# Altium footprint library 21-Transistor.PcbLib: 90 footprints (part 5 of 6)
Each footprint in its own frame and in the unit in brackets; x right, y up, seen from the top. Pads: shape width x height; smd on the part's side, far side on the other; paste and mask are expansions set on the pad; w line width, h text height; cw(c..) or ccw(c..) is an arc to the next point about the centre after c.
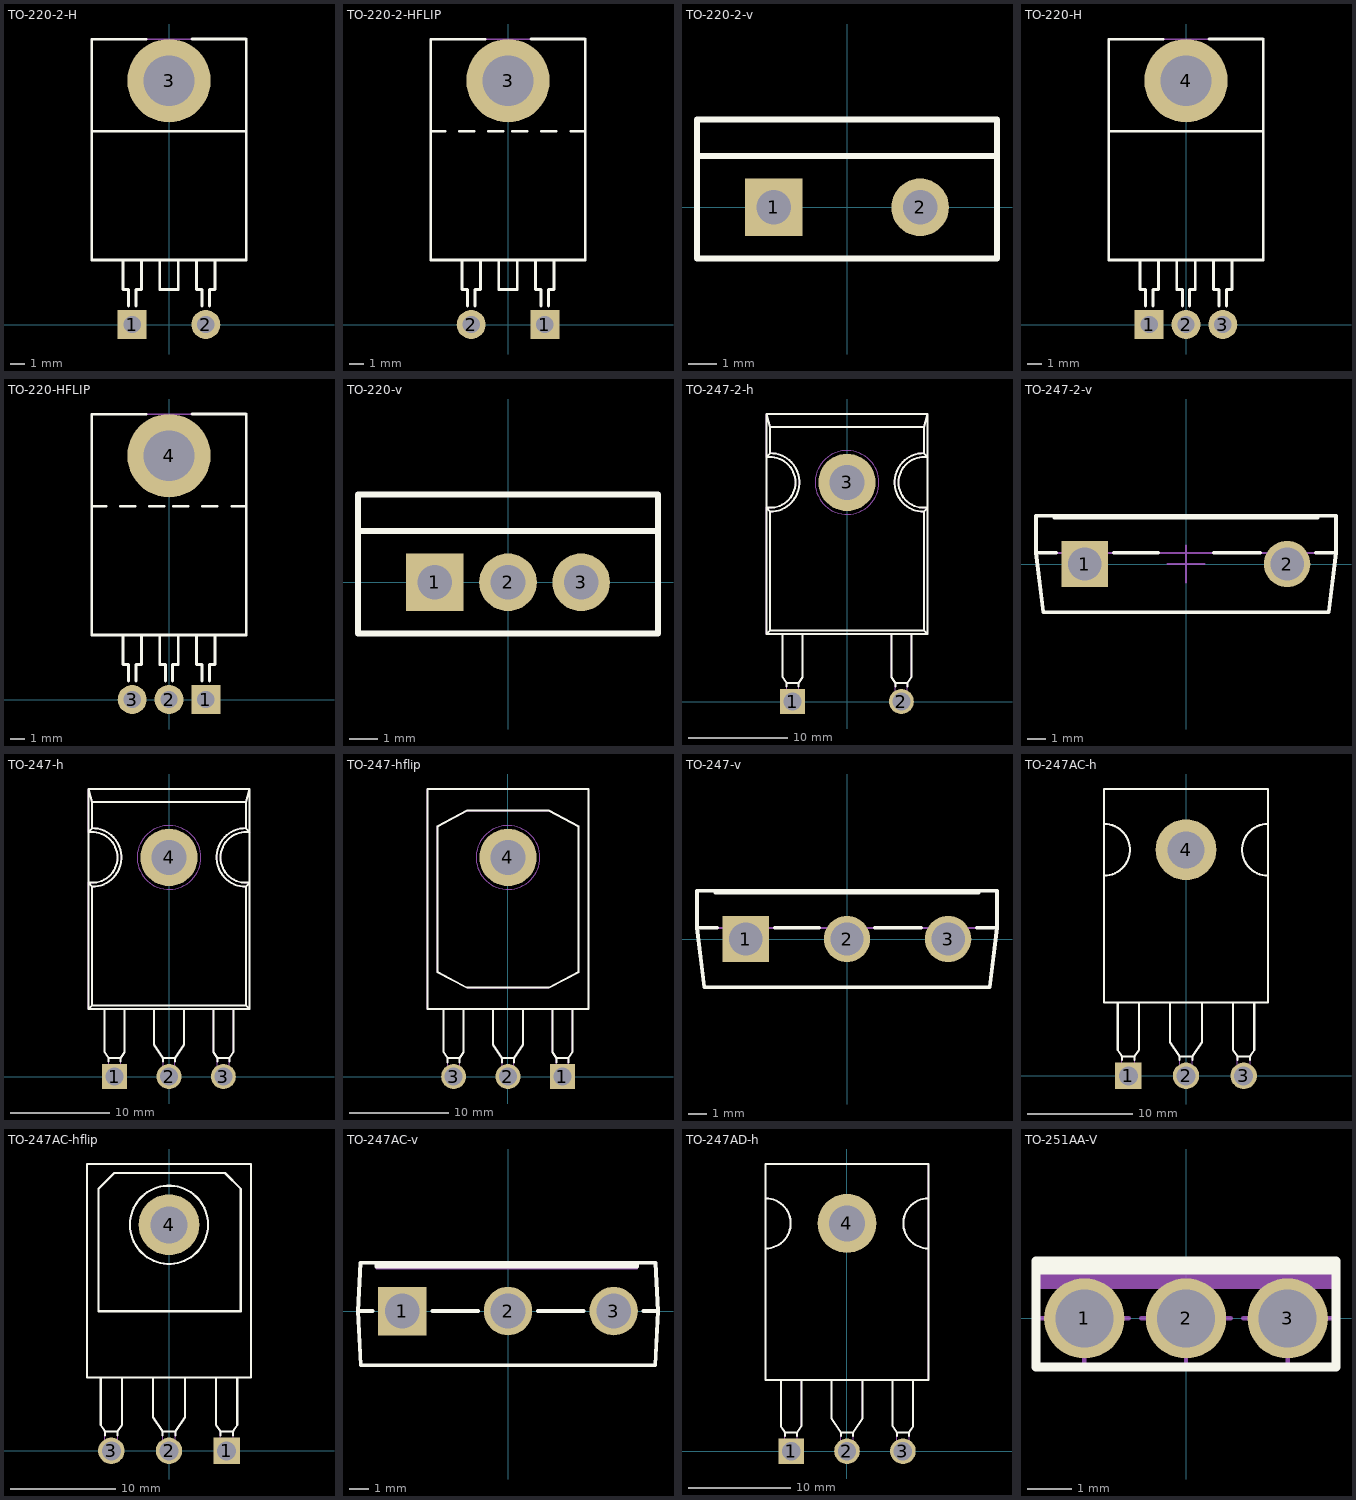
[diagram p4: the footprints below, top view; thin cyan lines are the x and y axes]

## TO-220-2-H [mm] "TO-220 2-Terminal + Tab - Horizontal Mount"
height 4.7
pads (3):
  rect 2x2 hole 1.2: 1(-2.54,0)
  round 2 hole 1.2: 2(2.54,0)
  round 5.75 hole 3.5: 3(0,16.828)
Top Overlay:
  lines w0.2: -5.334,13.335 5.334,13.335 ; -3.175,4.445 -3.175,2.413 -2.794,2.413 -2.794,1.27 ; -2.286,1.27 -2.286,2.413 -1.905,2.413 -1.905,4.445 ; -1.6,19.685 -5.334,19.685 -5.334,4.445 5.334,4.445 5.334,19.685 5.319,19.7 1.6,19.7 ; -0.635,4.445 -0.635,2.413 0.635,2.413 0.635,4.445 ; 1.905,4.445 1.905,2.413 2.286,2.413 2.286,1.27 ; 2.794,1.27 2.794,2.413 3.175,2.413 3.175,4.445
Mechanical 14:
  circle w0.1: c0,16.828 r2
  lines w0.1: -5.334,13.335 5.334,13.335 ; -3.175,4.445 -3.175,2.413 -2.794,2.413 -2.794,1.27 ; -2.286,1.27 -2.286,2.413 -1.905,2.413 -1.905,4.445 ; -0.635,4.445 -0.635,2.413 0.635,2.413 0.635,4.445 ; 1.905,4.445 1.905,2.413 2.286,2.413 2.286,1.27 ; 2.794,1.27 2.794,2.413 3.175,2.413 3.175,4.445 ; -5.334,4.445 -5.334,19.685 5.334,19.685 5.334,4.445 -5.334,4.445
3D body "TO-220-2-H.stp": height 4.7, standoff -3.5, extent -5.27,-0.28 5.27,19.49

## TO-220-2-HFLIP [mm] "TO-220 2-Terminal + Tab - Flipped Horizontal Mount"
height 4.7
pads (3):
  rect 2x2 hole 1.2: 1(2.54,0)
  round 2 hole 1.2: 2(-2.54,0)
  round 5.75 hole 3.5: 3(0,16.828)
Top Overlay:
  lines w0.2: -5.334,13.335 -4.334,13.335 ; -3.334,13.335 -2.334,13.335 ; -3.175,4.445 -3.175,2.413 -2.794,2.413 -2.794,1.27 ; -2.286,1.27 -2.286,2.413 -1.905,2.413 -1.905,4.445 ; -1.6,19.685 -5.334,19.685 -5.334,4.445 5.334,4.445 5.334,19.685 5.319,19.7 1.6,19.7 ; -1.334,13.335 -0.334,13.335 ; -0.635,4.445 -0.635,2.413 0.635,2.413 0.635,4.445 ; 0.3,13.335 1.3,13.335 ; 1.905,4.445 1.905,2.413 2.286,2.413 2.286,1.27 ; 2.3,13.335 3.3,13.335 ; 2.794,1.27 2.794,2.413 3.175,2.413 3.175,4.445 ; 4.334,13.335 5.334,13.335
Mechanical 14:
  circle w0.1: c0,16.828 r2
  lines w0.1: -5.334,13.335 -4.334,13.335 ; -3.334,13.335 -2.334,13.335 ; -3.175,4.445 -3.175,2.413 -2.794,2.413 -2.794,1.27 ; -2.286,1.27 -2.286,2.413 -1.905,2.413 -1.905,4.445 ; -1.334,13.335 -0.334,13.335 ; -0.635,4.445 -0.635,2.413 0.635,2.413 0.635,4.445 ; 0.3,13.335 1.3,13.335 ; 1.905,4.445 1.905,2.413 2.286,2.413 2.286,1.27 ; 2.3,13.335 3.3,13.335 ; 2.794,1.27 2.794,2.413 3.175,2.413 3.175,4.445 ; 4.334,13.335 5.334,13.335 ; -5.334,4.445 5.334,4.445 5.334,19.685 -5.334,19.685 -5.334,4.445
3D body "TO-220-2-HFLIP.stp": height 4.7, standoff -4.7, extent -5.27,-0.28 5.27,19.49

## TO-220-2-v [mm] "TO-220 2-Terminal - Vertical Mount"
height 22.86
pads (2):
  rect 2x2 hole 1.2: 1(-2.54,0)
  round 2 hole 1.2: 2(2.54,0)
Top Overlay:
  lines w0.2: -5.207,1.778 5.207,1.778 ; -5.207,-1.778 -5.207,3.048 5.207,3.048 5.207,-1.778 -5.207,-1.778
Mechanical 14:
  lines w0.1: -5.207,1.778 5.207,1.778 ; -5.207,-1.778 -5.207,3.048 5.207,3.048 5.207,-1.778 -5.207,-1.778
3D body "TO-220-2-V.stp": height 20.5, standoff -3.5, extent -5.27,-1.75 5.27,2.95

## TO-220-H [mm] "TO-220 3-Terminal + Tab - Horizontal Mount"
height 4.7
pads (4):
  rect 2x2 hole 1.2: 1(-2.54,0)
  round 2 hole 1.2: 2(0,0) 3(2.54,0)
  round 5.75 hole 3.5: 4(0,16.828)
Top Overlay:
  lines w0.2: -5.334,13.335 5.334,13.335 ; -3.175,4.445 -3.175,2.413 -2.794,2.413 -2.794,1.27 ; -2.286,1.27 -2.286,2.413 -1.905,2.413 -1.905,4.445 ; -1.6,19.685 -5.334,19.685 -5.334,4.445 5.334,4.445 5.334,19.685 5.319,19.7 1.6,19.7 ; -0.635,4.445 -0.635,2.413 -0.254,2.413 -0.254,1.27 ; 0.254,1.27 0.254,2.413 0.635,2.413 0.635,4.445 ; 1.905,4.445 1.905,2.413 2.286,2.413 2.286,1.27 ; 2.794,1.27 2.794,2.413 3.175,2.413 3.175,4.445
Mechanical 14:
  circle w0.1: c0,16.828 r2
  lines w0.1: -5.334,13.335 5.334,13.335 ; -3.175,4.445 -3.175,2.413 -2.794,2.413 -2.794,1.27 ; -2.286,1.27 -2.286,2.413 -1.905,2.413 -1.905,4.445 ; -0.635,4.445 -0.635,2.413 -0.254,2.413 -0.254,1.27 ; 0.254,1.27 0.254,2.413 0.635,2.413 0.635,4.445 ; 1.905,4.445 1.905,2.413 2.286,2.413 2.286,1.27 ; 2.794,1.27 2.794,2.413 3.175,2.413 3.175,4.445 ; -5.334,4.445 -5.334,19.685 5.334,19.685 5.334,4.445 -5.334,4.445
3D body "TO-220-H.stp": height 4.7, standoff -3.5, extent -5.27,-0.28 5.27,19.49

## TO-220-HFLIP [mm] "TO-220 3-Terminal + Tab - Flipped Horizontal Mount"
height 4.7
pads (4):
  rect 2x2 hole 1.2: 1(2.54,0)
  round 2 hole 1.2: 2(0,0) 3(-2.54,0)
  round 5.75 hole 3.5: 4(0,16.828)
Top Overlay:
  lines w0.2: -5.334,13.335 -4.334,13.335 ; -3.334,13.335 -2.334,13.335 ; -3.175,4.445 -3.175,2.413 -2.794,2.413 -2.794,1.27 ; -2.286,1.27 -2.286,2.413 -1.905,2.413 -1.905,4.445 ; -1.6,19.685 -5.334,19.685 -5.334,4.445 5.334,4.445 5.334,19.685 5.319,19.7 1.6,19.7 ; -1.334,13.335 -0.334,13.335 ; -0.635,4.445 -0.635,2.413 -0.254,2.413 -0.254,1.27 ; 0.254,1.27 0.254,2.413 0.635,2.413 0.635,4.445 ; 0.3,13.335 1.3,13.335 ; 1.905,4.445 1.905,2.413 2.286,2.413 2.286,1.27 ; 2.3,13.335 3.3,13.335 ; 2.794,1.27 2.794,2.413 3.175,2.413 3.175,4.445 ; 4.334,13.335 5.334,13.335
Mechanical 14:
  circle w0.1: c0,16.828 r2
  lines w0.1: -5.334,13.335 -4.334,13.335 ; -3.334,13.335 -2.334,13.335 ; -3.175,4.445 -3.175,2.413 -2.794,2.413 -2.794,1.27 ; -2.286,1.27 -2.286,2.413 -1.905,2.413 -1.905,4.445 ; -1.334,13.335 -0.334,13.335 ; -0.635,4.445 -0.635,2.413 -0.254,2.413 -0.254,1.27 ; 0.254,1.27 0.254,2.413 0.635,2.413 0.635,4.445 ; 0.3,13.335 1.3,13.335 ; 1.905,4.445 1.905,2.413 2.286,2.413 2.286,1.27 ; 2.3,13.335 3.3,13.335 ; 2.794,1.27 2.794,2.413 3.175,2.413 3.175,4.445 ; 4.334,13.335 5.334,13.335 ; -5.334,4.445 -5.334,19.685 5.334,19.685 5.334,4.445 -5.334,4.445
3D body "TO-220-HFLIP.stp": height 4.7, standoff -4.7, extent -5.27,-0.28 5.27,19.49

## TO-220-v [mm] "TO-220 3-Terminal - Vertical Mount"
height 22.86
pads (3):
  rect 2x2 hole 1.2: 1(-2.54,0)
  round 2 hole 1.2: 2(0,0) 3(2.54,0)
Top Overlay:
  lines w0.2: -5.207,1.778 5.207,1.778 ; -5.207,-1.778 5.207,-1.778 5.207,3.048 -5.207,3.048 -5.207,-1.778
Mechanical 14:
  lines w0.1: -5.207,1.778 5.207,1.778 ; -5.207,-1.778 5.207,-1.778 5.207,3.048 -5.207,3.048 -5.207,-1.778
3D body "TO-220-V.stp": height 20.5, standoff -3.5, extent -5.27,-1.75 5.27,2.95

## TO-247-2-h [mm] "TO-247 2-Terminal - Horizontal Mount"
height 5.26
pads (3):
  rect 2.5x2.5 hole 1.8: 1(-5.46,0)
  round 2.5 hole 1.8: 2(5.46,0)
  round 5.75 hole 3.5: 3(0,22)
Top Overlay:
  lines w0.2: -6.46,6.76 -6.46,2.44 -6.06,1.84 ; -6.06,1.5 -6.06,1.84 ; -4.86,1.5 -4.86,1.84 ; -4.46,6.76 -4.46,2.44 -4.86,1.84 ; 4.46,6.76 4.46,2.44 4.86,1.84 ; 4.86,1.5 4.86,1.84 ; 6.06,1.5 6.06,1.84 ; 6.46,6.76 6.46,2.44 6.06,1.84 ; 8.1,19.45 7.71,19.06 ; 8.1,19.49 cw(c7.71,22) 8.1,24.51 7.71,24.94 ; 8.1,28.86 7.71,27.567 ; -8.1,6.76 -8.1,28.86 ; -8.1,6.76 -7.71,7.153 ; -8.1,6.76 8.1,6.76 ; -8.1,28.86 -7.71,27.567 ; -8.1,28.86 8.103,28.869 8.1,6.76 ; -7.71,7.153 -7.71,19.06 ; -7.71,7.153 7.71,7.153 ; -7.71,19.06 ccw(c-7.71,22) -7.71,24.94 ; -7.71,19.06 -8.1,19.49 ccw(c-7.71,22) -8.1,24.51 -7.71,24.94 ; -7.71,24.94 -7.71,27.567 ; -7.71,27.567 7.71,27.567 ; -6.06,1.84 -4.86,1.84 ; 4.86,1.84 6.06,1.84 ; 7.71,7.153 8.1,6.76 ; 7.71,7.153 7.71,19.06 ; 7.71,19.06 cw(c7.71,22) 7.71,24.94 ; 7.71,24.94 7.71,27.567
Mechanical 8:
  lines w0.1: -6.46,0 -5.46,0 ; -5.46,-1 -5.46,0 ; -5.46,1 -5.46,0 ; -4.46,0 -5.46,0 ; -1,22 0,22 ; 0,21 0,22 ; 0,23 0,22 ; 1,22 0,22 ; 4.46,0 5.46,0 ; 5.46,-1 5.46,0 ; 5.46,1 5.46,0 ; 6.46,0 5.46,0
Mechanical 14:
  circle w0.1: c0,22 r3.202
  lines w0.1: -6.46,6.76 -6.46,2.44 -6.06,1.84 ; -4.46,6.76 -4.46,2.44 -4.86,1.84 ; 4.46,6.76 4.46,2.44 4.86,1.84 ; 6.46,6.76 6.46,2.44 6.06,1.84 ; 8.103,28.869 -8.1,28.86 ; -8.1,6.76 -7.71,7.153 ; -8.1,6.76 -8.1,19.49 ; -8.1,6.76 8.1,6.76 ; -8.1,19.49 ccw(c-7.71,22) -8.1,24.51 ; -8.1,19.49 -7.71,19.06 ; -8.1,24.51 -7.71,24.94 ; -8.1,24.51 -8.1,28.86 ; -8.1,28.86 -7.71,27.567 ; -7.71,7.153 -7.71,19.06 ; -7.71,7.153 7.71,7.153 ; -7.71,19.06 ccw(c-7.71,22) -7.71,24.94 ; -7.71,24.94 -7.71,27.567 ; -7.71,27.567 7.71,27.567 ; -6.06,1.84 -6.06,-0.5 -4.86,-0.5 -4.86,1.84 ; -6.06,1.84 -4.86,1.84 ; 4.86,1.84 4.86,-0.5 6.06,-0.5 6.06,1.84 ; 4.86,1.84 6.06,1.84 ; 7.71,7.153 8.1,6.76 ; 7.71,7.153 7.71,19.06 ; 7.71,19.06 cw(c7.71,22) 7.71,24.94 ; 7.71,19.06 8.1,19.49 ; 7.71,24.94 8.1,24.51 ; 7.71,24.94 7.71,27.567 ; 7.71,27.567 8.1,28.86 8.1,24.51 ; 8.1,6.76 8.1,19.49 ; 8.1,19.49 cw(c7.71,22) 8.1,24.51
3D body "TO-247-2-H.stp": height 5.2, standoff -3.8, extent -8.1,-0.5 8.1,28.86

## TO-247-2-v [mm] "TO-247 2-Terminal - Vertical Mount"
height 25
pads (2):
  rect 2.5x2.5 hole 1.8: 1(-5.46,0)
  round 2.5 hole 1.8: 2(5.46,0)
Top Overlay:
  lines w0.2: -7.1,2.6 -7.1,2.5 7.1,2.5 7.1,2.6 ; -7,0.6 -8.1,0.6 ; -3.9,0.6 -1.5,0.6 ; 1.5,0.6 4,0.6 ; 7,0.6 8.1,0.6 ; -8.1,0.6 -8.1,2.6 8.1,2.6 8.1,0.6 ; -8.1,0.6 -7.71,-2.6 7.71,-2.6 8.1,0.6
Mechanical 8:
  lines w0.1: -6.46,0 -5.46,0 ; -5.46,-1 -5.46,0 ; -5.46,1 -5.46,0 ; -4.46,0 -5.46,0 ; -1,0 0,0 ; 0,-1 0,0 ; 0,1 0,0 ; 1,0 0,0 ; 4.46,0 5.46,0 ; 5.46,-1 5.46,0 ; 5.46,1 5.46,0 ; 6.46,0 5.46,0
Mechanical 14:
  lines w0.1: -7.1,2.6 -7.1,2.5 7.1,2.5 7.1,2.6 ; -8.1,0.6 -8.1,2.6 8.1,2.6 8.1,0.6 ; -8.1,0.6 -7.71,-2.6 7.71,-2.6 8.1,0.6 ; -8.1,0.6 8.1,0.6
3D body "TO-247-2-V.stp": height 27.02, standoff -3.6, extent -8.1,-2.6 8.1,2.6

## TO-247-h [mm] "TO-247 3-Terminal - Horizontal Mount"
height 5.26
pads (4):
  rect 2.5x2.5 hole 1.8: 1(-5.46,0)
  round 2.5 hole 1.8: 2(0,0) 3(5.46,0)
  round 5.75 hole 3.5: 4(0,22)
Top Overlay:
  lines w0.2: -6.46,6.76 -6.46,2.44 -6.06,1.84 ; -6.06,1.5 -6.06,1.84 ; -4.86,1.5 -4.86,1.84 ; -4.46,6.76 -4.46,2.44 -4.86,1.84 ; -1.5,6.76 -1.5,3.19 -0.6,1.84 ; -0.6,1.5 -0.6,1.84 ; 0.6,1.5 0.6,1.84 ; 1.5,6.76 1.5,3.19 0.6,1.84 ; 4.46,6.76 4.46,2.44 4.86,1.84 ; 4.86,1.5 4.86,1.84 ; 6.06,1.5 6.06,1.84 ; 6.46,6.76 6.46,2.44 6.06,1.84 ; 8.1,19.45 7.71,19.06 ; 8.1,19.49 cw(c7.71,22) 8.1,24.51 7.71,24.94 ; 8.1,28.86 7.71,27.567 ; -8.1,6.76 8.1,6.76 ; -8.1,6.76 -7.71,7.153 ; -8.1,6.76 -8.1,28.86 ; -8.1,28.86 8.103,28.869 8.1,6.76 ; -8.1,28.86 -7.71,27.567 ; -7.71,7.153 7.71,7.153 ; -7.71,7.153 -7.71,19.06 ; -7.71,19.06 ccw(c-7.71,22) -7.71,24.94 ; -7.71,19.06 -8.1,19.49 ccw(c-7.71,22) -8.1,24.51 -7.71,24.94 ; -7.71,24.94 -7.71,27.567 ; -7.71,27.567 7.71,27.567 ; -6.06,1.84 -4.86,1.84 ; -0.6,1.84 0.6,1.84 ; 4.86,1.84 6.06,1.84 ; 7.71,7.153 7.71,19.06 ; 7.71,7.153 8.1,6.76 ; 7.71,19.06 cw(c7.71,22) 7.71,24.94 ; 7.71,24.94 7.71,27.567
Mechanical 8:
  lines w0.1: -6.46,0 -5.46,0 ; -5.46,-1 -5.46,0 ; -5.46,1 -5.46,0 ; -4.46,0 -5.46,0 ; -1,0 0,0 ; -1,22 0,22 ; 0,-1 0,0 ; 0,1 0,0 ; 0,21 0,22 ; 0,23 0,22 ; 1,0 0,0 ; 1,22 0,22 ; 4.46,0 5.46,0 ; 5.46,-1 5.46,0 ; 5.46,1 5.46,0 ; 6.46,0 5.46,0
Mechanical 14:
  circle w0.1: c0,22 r3.202
  lines w0.1: -6.46,6.76 -6.46,2.44 -6.06,1.84 ; -4.46,6.76 -4.46,2.44 -4.86,1.84 ; -1.5,6.76 -1.5,3.19 -0.6,1.84 ; 1.5,6.76 1.5,3.19 0.6,1.84 ; 4.46,6.76 4.46,2.44 4.86,1.84 ; 6.46,6.76 6.46,2.44 6.06,1.84 ; 8.103,28.869 -8.1,28.86 ; -8.1,6.76 8.1,6.76 ; -8.1,6.76 -8.1,19.49 ; -8.1,6.76 -7.71,7.153 ; -8.1,19.49 ccw(c-7.71,22) -8.1,24.51 ; -8.1,19.49 -7.71,19.06 ; -8.1,24.51 -8.1,28.86 ; -8.1,24.51 -7.71,24.94 ; -8.1,28.86 -7.71,27.567 ; -7.71,7.153 7.71,7.153 ; -7.71,7.153 -7.71,19.06 ; -7.71,19.06 ccw(c-7.71,22) -7.71,24.94 ; -7.71,24.94 -7.71,27.567 ; -7.71,27.567 7.71,27.567 ; -6.06,1.84 -4.86,1.84 ; -6.06,1.84 -6.06,-0.5 -4.86,-0.5 -4.86,1.84 ; -0.6,1.84 0.6,1.84 ; -0.6,1.84 -0.6,-0.5 0.6,-0.5 0.6,1.84 ; 4.86,1.84 6.06,1.84 ; 4.86,1.84 4.86,-0.5 6.06,-0.5 6.06,1.84 ; 7.71,7.153 7.71,19.06 ; 7.71,7.153 8.1,6.76 ; 7.71,19.06 cw(c7.71,22) 7.71,24.94 ; 7.71,19.06 8.1,19.49 ; 7.71,24.94 7.71,27.567 ; 7.71,24.94 8.1,24.51 ; 7.71,27.567 8.1,28.86 8.1,24.51 ; 8.1,6.76 8.1,19.49 ; 8.1,19.49 cw(c7.71,22) 8.1,24.51
3D body "TO-247-H.stp": height 5.2, standoff -3.8, extent -8.1,-0.5 8.1,28.86

## TO-247-hflip [mm] "TO-247 3-Terminal - Flipped Horizontal Mount"
height 5.26
pads (4):
  rect 2.5x2.5 hole 1.8: 1(5.46,0)
  round 2.5 hole 1.8: 2(0,0) 3(-5.46,0)
  round 5.75 hole 3.5: 4(0,22)
Top Overlay:
  lines w0.2: -6.46,6.76 -6.46,2.44 -6.06,1.84 ; -6.06,1.429 -6.06,1.84 ; -4.86,1.429 -4.86,1.84 ; -4.46,6.76 -4.46,2.44 -4.86,1.84 ; -1.5,6.76 -1.5,3.19 -0.6,1.84 ; -0.6,1.429 -0.6,1.84 ; 0.6,1.429 0.6,1.84 ; 1.5,6.76 1.5,3.19 0.6,1.84 ; 4.46,6.76 4.46,2.44 4.86,1.84 ; 4.86,1.429 4.86,1.84 ; 6.06,1.429 6.06,1.84 ; 6.46,6.76 6.46,2.44 6.06,1.84 ; 8.1,28.869 8.1,6.76 -8.1,6.76 -8.1,28.86 8.103,28.869 ; -6.06,1.84 -4.86,1.84 ; -0.6,1.84 0.6,1.84 ; 4.86,1.84 6.06,1.84 ; -7.1,10.51 -4.1,8.92 4.1,8.92 7.1,10.51 7.1,25.11 4.1,26.7 -4.1,26.7 -7.1,25.11 -7.1,10.51
Mechanical 8:
  lines w0.1: -5.46,0 -6.46,0 -5.46,0 ; -5.46,0 -4.46,0 -5.46,0 ; -5.46,0 -5.46,-1 -5.46,0 ; -5.46,0 -5.46,1 -5.46,0 ; 0,0 -1,0 0,0 ; 0,0 1,0 0,0 ; 0,0 0,-1 0,0 ; 0,0 0,1 0,0 ; 0,22 -1,22 0,22 ; 0,22 1,22 0,22 ; 0,22 0,21 0,22 ; 0,22 0,23 0,22 ; 5.46,0 4.46,0 5.46,0 ; 5.46,0 6.46,0 5.46,0 ; 5.46,0 5.46,-1 5.46,0 ; 5.46,0 5.46,1 5.46,0
Mechanical 14:
  circle w0.1: c0,22 r3.202
  lines w0.1: -6.46,6.76 -6.46,2.44 -6.06,1.84 ; -4.46,6.76 -4.46,2.44 -4.86,1.84 ; -1.5,6.76 -1.5,3.19 -0.6,1.84 ; 1.5,6.76 1.5,3.19 0.6,1.84 ; 4.46,6.76 4.46,2.44 4.86,1.84 ; 6.46,6.76 6.46,2.44 6.06,1.84 ; 8.1,28.869 8.1,6.76 -8.1,6.76 -8.1,28.86 8.103,28.869 ; -6.06,1.84 -4.86,1.84 ; -6.06,1.84 -6.06,-0.5 -4.86,-0.5 -4.86,1.84 ; -0.6,1.84 0.6,1.84 ; -0.6,1.84 -0.6,-0.5 0.6,-0.5 0.6,1.84 ; 4.86,1.84 6.06,1.84 ; 4.86,1.84 4.86,-0.5 6.06,-0.5 6.06,1.84 ; -7.1,10.51 -4.1,8.92 4.1,8.92 7.1,10.51 7.1,25.11 4.1,26.7 -4.1,26.7 -7.1,25.11 -7.1,10.51
3D body "TO-247-HFLIP.stp": height 5.2, standoff -3.8, extent -8.1,-0.5 8.1,28.86

## TO-247-v [mm] "TO-247 3-Terminal - Vertical Mount"
height 25
pads (3):
  rect 2.5x2.5 hole 1.8: 1(-5.46,0)
  round 2.5 hole 1.8: 2(0,0) 3(5.46,0)
Top Overlay:
  lines w0.2: -7.1,2.6 -7.1,2.5 7.1,2.5 7.1,2.6 ; -7,0.6 -8.1,0.6 ; -3.9,0.6 -1.5,0.6 ; 1.5,0.6 4,0.6 ; 7,0.6 8.1,0.6 ; -8.1,0.6 -7.71,-2.6 7.71,-2.6 8.1,0.6 ; -8.1,0.6 -8.1,2.6 8.1,2.6 8.1,0.6
Mechanical 8:
  lines w0.1: -6.46,0 -5.46,0 ; -5.46,-1 -5.46,0 ; -5.46,1 -5.46,0 ; -4.46,0 -5.46,0 ; -1,0 0,0 ; 0,-1 0,0 ; 0,1 0,0 ; 1,0 0,0 ; 4.46,0 5.46,0 ; 5.46,-1 5.46,0 ; 5.46,1 5.46,0 ; 6.46,0 5.46,0
Mechanical 14:
  lines w0.1: -7.1,2.6 -7.1,2.5 7.1,2.5 7.1,2.6 ; -8.1,0.6 8.1,0.6 ; -8.1,0.6 -7.71,-2.6 7.71,-2.6 8.1,0.6 ; -8.1,0.6 -8.1,2.6 8.1,2.6 8.1,0.6
3D body "TO-247-V.stp": height 27.02, standoff -3.6, extent -8.1,-2.6 8.1,2.6

## TO-247AC-h [mm] "TO-247AC 3-Terminal - Horizontal Mount"
height 5.3
pads (4):
  rect 2.5x2.5 hole 1.8: 1(-5.46,0)
  round 2.5 hole 1.8: 2(0,0) 3(5.46,0)
  round 5.75 hole 3.5: 4(0,21.39)
Top Overlay:
  lines w0.2: -7.75,18.94 ccw(c-7.75,21.39) -7.75,23.84 ; -6.46,6.94 -6.46,2.44 -6.06,1.84 ; -6.06,1.5 -6.06,1.84 ; -4.86,1.5 -4.86,1.84 ; -4.46,6.94 -4.46,2.44 -4.86,1.84 ; -1.5,6.94 -1.5,3.19 -0.6,1.84 ; -0.6,1.5 -0.6,1.84 ; 0.6,1.5 0.6,1.84 ; 1.5,6.94 1.5,3.19 0.6,1.84 ; 4.46,6.94 4.46,2.44 4.86,1.84 ; 4.86,1.5 4.86,1.84 ; 6.06,1.5 6.06,1.84 ; 6.46,6.94 6.46,2.44 6.06,1.84 ; 7.75,18.94 cw(c7.75,21.39) 7.75,23.84 ; -6.06,1.84 -4.86,1.84 ; -0.6,1.84 0.6,1.84 ; 4.86,1.84 6.06,1.84 ; -7.75,6.94 7.75,6.94 7.75,27.14 -7.75,27.14 -7.75,6.94
Mechanical 8:
  lines w0.1: -5.96,0 -5.46,0 ; -5.46,-0.5 -5.46,0 ; -5.46,0.5 -5.46,0 ; -4.96,0 -5.46,0 ; -0.5,0 0,0 ; -0.5,21.39 0,21.39 ; 0,-0.5 0,0 ; 0,0.5 0,0 ; 0,20.89 0,21.39 ; 0,21.89 0,21.39 ; 0.5,0 0,0 ; 0.5,21.39 0,21.39 ; 4.96,0 5.46,0 ; 5.46,-0.5 5.46,0 ; 5.46,0.5 5.46,0 ; 5.96,0 5.46,0
Mechanical 14:
  circle w0.1: c0,21.39 r1.75
  lines w0.1: -7.75,18.94 ccw(c-7.75,21.39) -7.75,23.84 ; -6.46,6.94 -6.46,2.44 -6.06,1.84 ; -4.46,6.94 -4.46,2.44 -4.86,1.84 ; -1.5,6.94 -1.5,3.19 -0.6,1.84 ; 1.5,6.94 1.5,3.19 0.6,1.84 ; 4.46,6.94 4.46,2.44 4.86,1.84 ; 6.46,6.94 6.46,2.44 6.06,1.84 ; 7.75,18.94 cw(c7.75,21.39) 7.75,23.84 ; -6.06,1.84 -6.06,-0.5 -4.86,-0.5 -4.86,1.84 ; -6.06,1.84 -4.86,1.84 ; -0.6,1.84 -0.6,-0.5 0.6,-0.5 0.6,1.84 ; -0.6,1.84 0.6,1.84 ; 4.86,1.84 6.06,1.84 ; 4.86,1.84 4.86,-0.5 6.06,-0.5 6.06,1.84 ; -7.75,6.94 -7.75,27.14 7.75,27.14 7.75,6.94 -7.75,6.94
3D body "TO-247AC-H.stp": height 5.3, standoff -3.9, extent -7.75,-0.5 7.75,27.14

## TO-247AC-hflip [mm] "TO-247AC 3-Terminal - Flipped Horizontal Mount"
height 5.3
pads (4):
  rect 2.5x2.5 hole 1.8: 1(5.46,0)
  round 2.5 hole 1.8: 2(0,0) 3(-5.46,0)
  round 5.75 hole 3.5: 4(0,21.39)
Top Overlay:
  circle w0.2: c0,21.39 r3.7
  lines w0.2: -6.46,6.94 -6.46,2.44 -6.06,1.84 ; -6.06,1.429 -6.06,1.84 ; -4.86,1.429 -4.86,1.84 ; -4.46,6.94 -4.46,2.44 -4.86,1.84 ; -1.5,6.94 -1.5,3.19 -0.6,1.84 ; -0.6,1.429 -0.6,1.84 ; 0.6,1.429 0.6,1.84 ; 1.5,6.94 1.5,3.19 0.6,1.84 ; 4.46,6.94 4.46,2.44 4.86,1.84 ; 4.86,1.429 4.86,1.84 ; 6.06,1.429 6.06,1.84 ; 6.46,6.94 6.46,2.44 6.06,1.84 ; -6.06,1.84 -4.86,1.84 ; -0.6,1.84 0.6,1.84 ; 4.86,1.84 6.06,1.84 ; -7.75,6.94 -7.75,27.14 7.75,27.14 7.75,6.94 -7.75,6.94 ; -6.665,13.21 -6.665,24.79 -5.165,26.29 5.295,26.29 6.795,24.79 6.795,13.21 -6.665,13.21
Mechanical 8:
  lines w0.1: -5.96,0 -5.46,0 ; -5.46,-0.5 -5.46,0 ; -5.46,0.5 -5.46,0 ; -4.96,0 -5.46,0 ; -0.5,0 0,0 ; -0.5,21.39 0,21.39 ; 0,-0.5 0,0 ; 0,0.5 0,0 ; 0,20.89 0,21.39 ; 0,21.89 0,21.39 ; 0.5,0 0,0 ; 0.5,21.39 0,21.39 ; 4.96,0 5.46,0 ; 5.46,-0.5 5.46,0 ; 5.46,0.5 5.46,0 ; 5.96,0 5.46,0
Mechanical 14:
  circle w0.1: c0,21.39 r1.75
  circle w0.1: c0,21.39 r3.7
  lines w0.1: -6.46,6.94 -6.46,2.44 -6.06,1.84 ; -4.46,6.94 -4.46,2.44 -4.86,1.84 ; -1.5,6.94 -1.5,3.19 -0.6,1.84 ; 1.5,6.94 1.5,3.19 0.6,1.84 ; 4.46,6.94 4.46,2.44 4.86,1.84 ; 6.46,6.94 6.46,2.44 6.06,1.84 ; -6.06,1.84 -6.06,-0.5 -4.86,-0.5 -4.86,1.84 ; -6.06,1.84 -4.86,1.84 ; -0.6,1.84 -0.6,-0.5 0.6,-0.5 0.6,1.84 ; -0.6,1.84 0.6,1.84 ; 4.86,1.84 6.06,1.84 ; 4.86,1.84 4.86,-0.5 6.06,-0.5 6.06,1.84 ; -7.75,6.94 -7.75,27.14 7.75,27.14 7.75,6.94 -7.75,6.94 ; -6.665,13.21 -6.665,24.79 -5.165,26.29 5.295,26.29 6.795,24.79 6.795,13.21 -6.665,13.21
3D body "TO-247AC-HFLIP.stp": height 5.3, standoff -3.6, extent -7.75,-0.5 7.75,27.14

## TO-247AC-v [mm] "TO-247AC 3-Terminal - Vertical Mount"
height 25
pads (3):
  rect 2.5x2.5 hole 1.8: 1(-5.46,0)
  round 2.5 hole 1.8: 2(0,0) 3(5.46,0)
Top Overlay:
  lines w0.2: -7.728,0 -7.01,0 ; -6.795,2.5 -6.795,2.3 6.665,2.3 6.665,2.5 ; -3.91,0 -1.55,0 ; 1.55,0 3.91,0 ; 7.01,0 7.75,0 ; 7.75,0 7.61,-2.8 -7.61,-2.8 -7.75,0 -7.62,2.5 7.62,2.5 7.75,0
Mechanical 8:
  lines w0.1: -5.96,0 -5.46,0 ; -5.46,-0.5 -5.46,0 ; -5.46,0.5 -5.46,0 ; -4.96,0 -5.46,0 ; -0.5,0 0,0 ; 0,-0.5 0,0 ; 0,0.5 0,0 ; 0.5,0 0,0 ; 4.96,0 5.46,0 ; 5.46,-0.5 5.46,0 ; 5.46,0.5 5.46,0 ; 5.96,0 5.46,0
Mechanical 14:
  lines w0.1: -6.795,2.3 6.665,2.3 ; -6.795,2.4 6.665,2.4 ; -6.795,2.5 -6.795,2.2 6.665,2.2 6.665,2.5 ; -7.75,0 -7.61,-2.8 7.61,-2.8 7.75,0 7.62,2.5 -7.62,2.5 -7.75,0
3D body "TO-247AC-V.stp": height 26.75, standoff -3.6, extent -7.75,-2.8 7.75,2.5

## TO-247AD-h [mm] "TO-247AD 3-Terminal - Horizontal Mount"
height 5.3
pads (4):
  rect 2.5x2.5 hole 1.8: 1(-5.46,0)
  round 2.5 hole 1.8: 2(0,0) 3(5.46,0)
  round 5.75 hole 3.5: 4(0,22.24)
Top Overlay:
  lines w0.2: -7.95,19.79 ccw(c-7.95,22.24) -7.95,24.69 ; -6.46,6.94 -6.46,2.44 -6.06,1.84 ; -6.06,1.5 -6.06,1.84 ; -4.86,1.5 -4.86,1.84 ; -4.46,6.94 -4.46,2.44 -4.86,1.84 ; -1.5,6.94 -1.5,3.19 -0.6,1.84 ; -0.6,1.5 -0.6,1.84 ; 0.6,1.5 0.6,1.84 ; 1.5,6.94 1.5,3.19 0.6,1.84 ; 4.46,6.94 4.46,2.44 4.86,1.84 ; 4.86,1.5 4.86,1.84 ; 6.06,1.5 6.06,1.84 ; 6.46,6.94 6.46,2.44 6.06,1.84 ; 7.95,19.79 cw(c7.95,22.24) 7.95,24.69 ; -6.06,1.84 -4.86,1.84 ; -0.6,1.84 0.6,1.84 ; 4.86,1.84 6.06,1.84 ; -7.95,6.94 7.95,6.94 7.95,28.04 -7.95,28.04 -7.95,6.94
Mechanical 8:
  lines w0.1: -5.96,0 -5.46,0 ; -5.46,-0.5 -5.46,0 ; -5.46,0.5 -5.46,0 ; -4.96,0 -5.46,0 ; -0.5,0 0,0 ; -0.5,22.24 0,22.24 ; 0,-0.5 0,0 ; 0,0.5 0,0 ; 0,21.74 0,22.24 ; 0,22.74 0,22.24 ; 0.5,0 0,0 ; 0.5,22.24 0,22.24 ; 4.96,0 5.46,0 ; 5.46,-0.5 5.46,0 ; 5.46,0.5 5.46,0 ; 5.96,0 5.46,0
Mechanical 14:
  circle w0.1: c0,22.24 r1.75
  lines w0.1: -7.95,19.79 ccw(c-7.95,22.24) -7.95,24.69 ; -6.46,6.94 -6.46,2.44 -6.06,1.84 ; -4.46,6.94 -4.46,2.44 -4.86,1.84 ; -1.5,6.94 -1.5,3.19 -0.6,1.84 ; 1.5,6.94 1.5,3.19 0.6,1.84 ; 4.46,6.94 4.46,2.44 4.86,1.84 ; 6.46,6.94 6.46,2.44 6.06,1.84 ; 7.95,19.79 cw(c7.95,22.24) 7.95,24.69 ; -6.06,1.84 -4.86,1.84 ; -6.06,1.84 -6.06,-0.5 -4.86,-0.5 -4.86,1.84 ; -0.6,1.84 0.6,1.84 ; -0.6,1.84 -0.6,-0.5 0.6,-0.5 0.6,1.84 ; 4.86,1.84 4.86,-0.5 6.06,-0.5 6.06,1.84 ; 4.86,1.84 6.06,1.84 ; -7.95,6.94 7.95,6.94 7.95,28.04 -7.95,28.04 -7.95,6.94
3D body "TO-247AD-H.stp": height 5.3, standoff -3.9, extent -7.95,-0.5 7.95,28.04

## TO-251AA-V [mm] "TO-251AA 3-Terminal - Vertical Mount"
height 10.5
pads (3):
  round 1.8 hole 1.3: 1(-2.28,0) 2(0,0) 3(2.28,0)
Top Overlay:
  lines w0.2: -3.365,1.09 3.365,1.09 ; -3.365,-1.09 3.365,-1.09 3.365,1.29 -3.365,1.29 -3.365,-1.09
Mechanical 8:
  lines w0.1: -3.28,0 -2.28,0 ; -2.28,-1 -2.28,0 ; -2.28,1 -2.28,0 ; -1.28,0 -2.28,0 ; -1,0 0,0 ; 0,-1 0,0 ; 0,1 0,0 ; 1,0 0,0 ; 1.28,0 2.28,0 ; 2.28,-1 2.28,0 ; 2.28,1 2.28,0 ; 3.28,0 2.28,0
Mechanical 14:
  lines w0.1: -3.365,0.71 3.365,0.71 ; -3.365,0.79 3.365,0.79 ; -3.365,0.89 3.365,0.89 ; -3.365,0.99 3.365,0.99 ; -3.365,1.09 3.365,1.09 ; -3.365,1.19 3.365,1.19 ; -3.365,-1.09 -3.365,1.29 3.365,1.29 3.365,-1.09 -3.365,-1.09
3D body "TO-251AA-V.stp": height 10.49, standoff -3.2, extent -3.365,-1.09 3.365,1.29